# Altium schematic symbol library female_headers_16.SchLib: 1 symbol
Pins are listed as number, name and electrical type; pins without a type are passive.

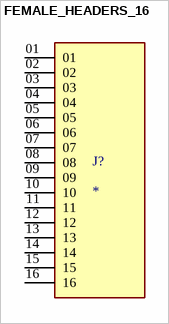
[diagram p0: symbol FEMALE_HEADERS_16]

## FEMALE_HEADERS_16
designator J?
MP: TSW-116-23-S-S-LL; Package: None; Price: None; Value: *; Availability: Unavailable
footprint SAMTEC_TSW-116-23-S-S-LL
pins: 01, 02, 03, 04, 05, 06, 07, 08, 09, 10, 11, 12, 13, 14, 15, 16